# Altium footprint library CoolerUI-BotPCB.PcbLib: 11 footprints
Each footprint in its own frame and in the unit in brackets; x right, y up, seen from the top. Pads: shape width x height; smd on the part's side, far side on the other; paste and mask are expansions set on the pad; w line width, h text height; cw(c..) or ccw(c..) is an arc to the next point about the centre after c.
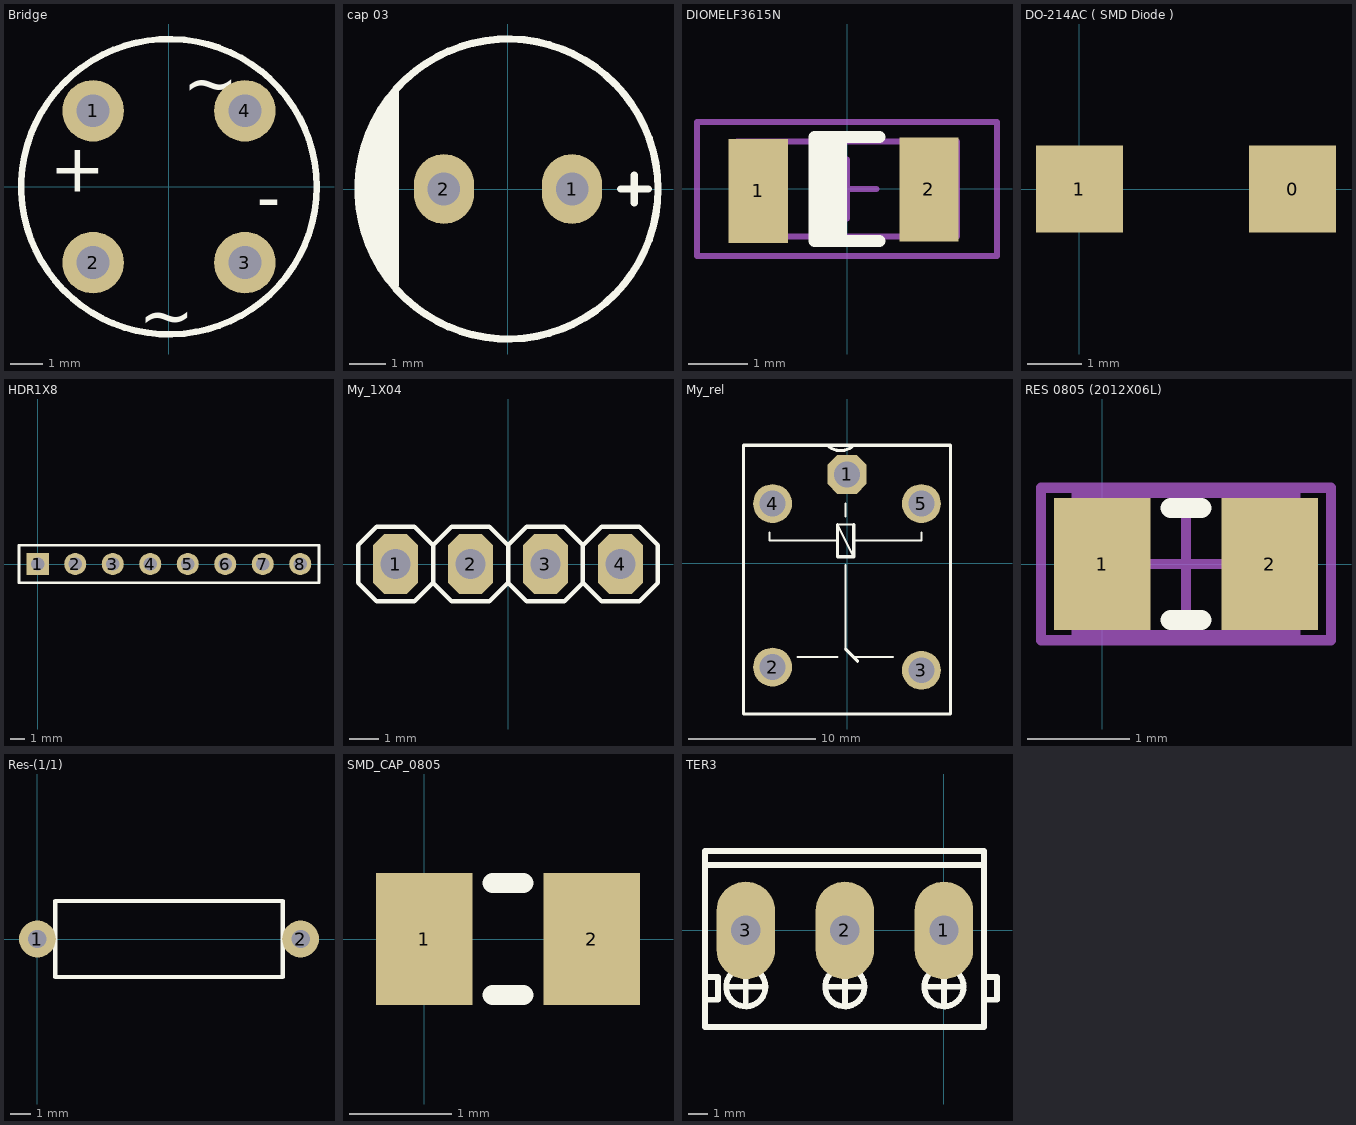
[diagram p0: the footprints below, top view; thin cyan lines are the x and y axes]

## Bridge [mm]
height 5.1
pads (4):
  round 1.905 hole 1.016: 1(-2.35,2.35) 2(-2.35,-2.35) 3(2.35,-2.35) 4(2.35,2.35)
Top Overlay:
  circle w0.2: c0,0 r4.572
  text "~" at 0.432,2.489 h1.5
  text "~" at -0.942,-4.714 h1.5
  text "+" at -3.698,-0.152 h1.5
  text "-" at 2.723,-1.054 h1.5
3D body: height 5.21, standoff -1.9, extent -3.923,-4.064 4.177,4.036

## cap 03 [mil]
pads (2):
  oval 65x75 hole 35: 1(68.9,0) 2(-68.9,0)
Top Overlay:
  circle w7.87: c0,0 r161.42
  lines w7.87: -153.66,-42.13 -153.66,43.7 ; 121,0 151,0 ; 136,-15 136,15
  lines w10: -146.18,-64.17 -146.18,63.78 ; -137.52,-81.89 -137.52,81.5 ; -128.86,-94.88 -128.86,95.28 ; -122.17,-103.15 -122.17,103.94
3D body: height 473.44, standoff -136.91, extent -159.48,-159 157.48,157.96

## DIOMELF3615N [mm] "MELF Diode, 2-Leads, Body 3.6x1.5mm, IPC Medium Density"
height 1.6
pads (2):
  rect 1x1.75 smd: 1(-1.495,-0.03) 2(1.38,-0.005)
Top Overlay:
  rectangle: -0.549,-0.875 0.001,0.875
  lines w0.2: 0.55,-0.875 -0.55,-0.875 -0.55,0.875 0.55,0.875
Mechanical 13:
  rectangle: -1.85,-0.8 -1.352,0.8
  lines w0.1: -1.85,-0.8 1.85,-0.8 1.85,0.8 -1.85,0.8 -1.85,-0.8
Mechanical 15:
  lines w0.1: -0.5,0 0.5,0 ; 0,-0.5 0,0.5 ; -2.525,-1.125 2.525,-1.125 2.525,1.125 -2.525,1.125 -2.525,-1.125
3D body: height 1.45, standoff -0.05, extent -1.61,-0.83 1.54,0.67

## DO-214AC ( SMD Diode ) [mm]
pads (2):
  rect 1.6x1.6 smd: 0(3.93,0) 1(0,0)
3D body: height 2.15, standoff -0.05, extent -0.55,-1.3 4.45,1.4

## HDR1X8 [mm] "Connector; Header; 8 Position"
pads (8):
  rect 1.5x1.5 hole 0.9: 1(0,0)
  round 1.5 hole 0.9: 2(2.54,0) 3(5.08,0) 4(7.62,0) 5(10.16,0) 6(12.7,0) 7(15.24,0) 8(17.78,0)
Top Overlay:
  lines w0.2: -1.27,-1.27 -1.27,1.27 19.05,1.27 19.05,-1.27 -1.27,-1.27

## My_1X04 [mil]
pads (4):
  oct 60x80 hole 40: 1(-150,0) 2(-50,0) 3(50,0) 4(150,0)
Top Overlay:
  rectangle: 140,-10 160,10
  rectangle: -160,-10 -140,10
  rectangle: -60,-10 -40,10
  rectangle: 40,-10 60,10
  lines w6: -100,-25 -75,-50 -25,-50 0,-25 ; -100,-25 -125,-50 -175,-50 -200,-25 -200,25 -175,50 -125,50 -100,25 ; -100,-25 -100,25 ; -100,25 -75,50 -25,50 0,25 ; 0,-25 0,25 ; 0,-25 25,-50 75,-50 100,-25 ; 0,25 25,50 75,50 100,25 ; 100,-25 125,-50 175,-50 200,-25 200,25 175,50 125,50 100,25 ; 100,-25 100,25

## My_rel [mil]
pads (5):
  oct 120x120 hole 80: 1(-0.5,274.5)
  round 120 hole 80: 2(-230.5,-320.5) 3(229.5,-330.5) 4(-230.5,184.5) 5(229.5,184.5)
Top Overlay:
  lines w6: -240,95.09 -240,70.09 -30,70.09 ; -153,-289.91 -30,-289.91 ; -5,-264.91 -5,-4.91 ; -5,145.09 -5,185.09 ; 20,-289.91 142,-289.91 ; 20,20.09 -30,120.09 20,120.09 ; 20,70.09 230,70.09 230,95.09
  lines w10: -60.5,364.5 ccw(c-20.5,404.5) 19.5,364.5 ; -30,120.09 -30,70.09 -30,20.09 20,20.09 20,70.09 20,120.09 ; -5,-264.91 20,-289.91 32,-302.91 ; -320.5,-465.5 -320.5,364.5 319.5,364.5 319.5,-465.5 -320.5,-465.5

## RES 0805 (2012X06L) [mm] "Chip Resistor, 2-Leads, Body 2.0x1.3mm, IPC High Density _ (0.100 W)"
height 0.65
pads (2):
  rect 0.95x1.3 smd: 1(0,0) 2(1.65,0)
Top Overlay:
  lines w0.2: 0.675,-0.55 0.975,-0.55 ; 0.675,0.55 0.975,0.55
Mechanical 13:
  lines w0.1: -0.25,-0.7 -0.25,0.7 1.9,0.7 1.9,-0.7 -0.25,-0.7
Mechanical 15:
  lines w0.1: 0.325,0 1.325,0 ; 0.825,-0.5 0.825,0.5 ; -0.6,-0.75 -0.6,0.75 2.25,0.75 2.25,-0.75 -0.6,-0.75
3D body: height 0.6, standoff 0, extent -0.191,-0.635 1.841,0.635

## Res-(1/1) [mil]
pads (2):
  round 70 hole 35: 1(0,0) 2(500,0)
Top Overlay:
  lines w7.87: 34,-72 466,-72 466,72 34,72 34,-72
3D body: height 150.74, standoff -78.74, extent -10.5,-71 514.5,73

## SMD_CAP_0805 [mm]
pads (2):
  rect 0.95x1.3 smd: 1(0,0) 2(1.65,0)
Top Overlay:
  lines w0.2: 0.675,-0.55 0.975,-0.55 ; 0.675,0.55 0.975,0.55
3D body: height 0.65, standoff 0, extent -0.191,-0.635 1.841,0.635

## TER3 [mm]
pads (3):
  oval 3x5 hole 1.5: 1(0,0) 2(-5.08,0) 3(-10.16,0)
Top Overlay:
  circle w0.3: c-10.16,-2.896 r1.006
  circle w0.3: c-5.08,-2.896 r1.006
  circle w0.3: c0,-2.896 r1.006
  lines w0.3: -12.217,-3.556 -11.582,-3.556 -11.582,-2.388 -12.167,-2.388 ; -12.141,3.353 1.93,3.353 ; -11.024,-2.896 -9.322,-2.896 ; -10.16,-3.734 -10.16,-2.108 ; -5.944,-2.896 -4.242,-2.896 ; -5.08,-3.734 -5.08,-2.108 ; -0.864,-2.896 0.838,-2.896 ; 0,-3.734 0,-2.108 ; 2.083,-3.556 2.718,-3.556 2.718,-2.388 2.134,-2.388
  lines w0.305: -12.243,-4.953 2.057,-4.953 2.057,4.064 -12.243,4.064 -12.243,-4.953